# EAGLE library part ADUM4160 (library USB_Isolator)
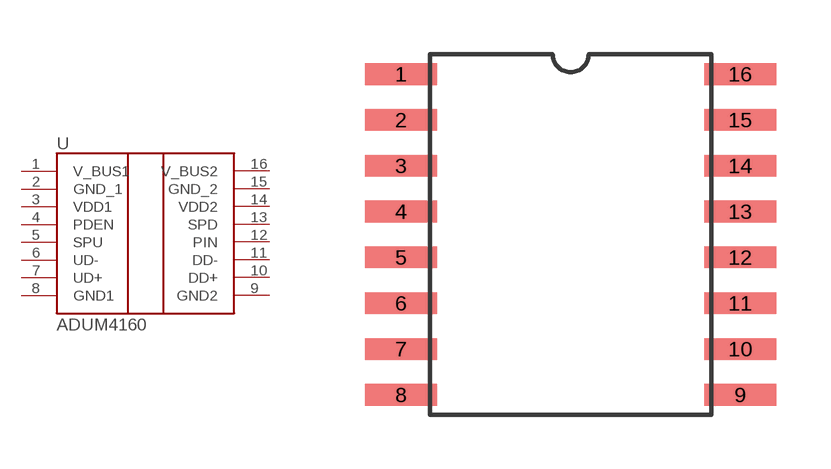
[diagram p0: symbol with the pads of SOIC_W-28; footprint SOIC_W-28]

Designator prefix U

## ADUM4160  [SOIC_W-28]
1  V_BUS1  pwr
2  GND_1  pwr
3  VDD1  sup
4  PDEN  in
5  SPU  in
6  UD-
7  UD+
8  GND1  pwr
9  GND2  pwr
10  DD+
11  DD-
12  PIN  in
13  SPD  in
14  VDD2  sup
15  GND_2  pwr
16  V_BUS2  pwr

## Footprint SOIC_W-28 (pad centres in mm)
smd 2 x 0.6: 1 -4.7,4.445; 2 -4.7,3.175; 3 -4.7,1.905; 4 -4.7,0.635; 5 -4.7,-0.635; 6 -4.7,-1.905; 7 -4.7,-3.175; 8 -4.7,-4.445; 9 4.7,-4.445; 10 4.7,-3.175; 11 4.7,-1.905; 12 4.7,-0.635; 13 4.7,0.635; 14 4.7,1.905; 15 4.7,3.175; 16 4.7,4.445